# Altium footprint library ResistorArray.PcbLib: 1 footprints
Each footprint in its own frame and in the unit in brackets; x right, y up, seen from the top. Pads: shape width x height; smd on the part's side, far side on the other; paste and mask are expansions set on the pad; w line width, h text height; cw(c..) or ccw(c..) is an arc to the next point about the centre after c.
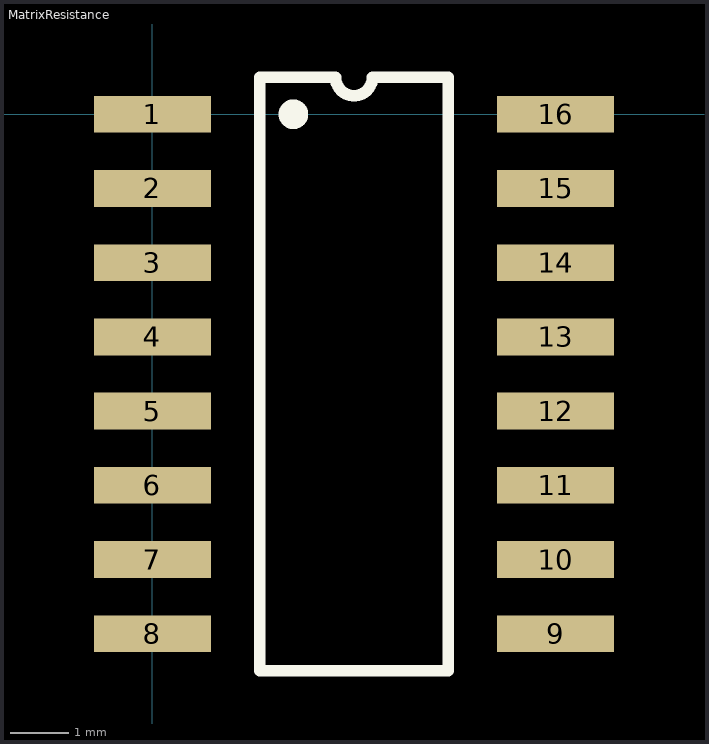
[diagram p0: the footprint, top view; thin cyan lines are the x and y axes]

## MatrixResistance [mm]
pads (16):
  rect 2x0.63 smd: 1(0,0) 2(0,-1.27) 3(0,-2.54) 4(0,-3.81) 5(0,-5.08) 6(0,-6.35) 7(0,-7.62) 8(0,-8.89) 9(6.9,-8.89) 10(6.9,-7.62) 11(6.9,-6.35) 12(6.9,-5.08) 13(6.9,-3.81) 14(6.9,-2.54) 15(6.9,-1.27) 16(6.9,0)
Top Overlay:
  circle w0.254: c2.413,0 r0.127
  lines w0.2: 1.835,-9.525 5.065,-9.525 5.065,0.635 3.767,0.635 cw(c3.45,0.635) 3.132,0.635 1.835,0.635 1.835,-9.525
3D body: height 2.03, standoff -0.17, extent -0.381,-10.037 7.239,1.143